# EAGLE library part ADXL362 (library SparkFun-Sensors)
Analog Devices ADXL362 3-Axis SPI Accelerometer The ADXL362 is an ultralow power, 3-axis MEMS accelerometer that consumes less than 2 μA at a 100 Hz output data rate and 270 nA when in motion triggered wake-up mode. Unlike accelerometers that use power duty cycling to achieve low power consumption, the ADXL362 does not alias input signals by undersampling; it samples the full bandwidth of the sensor at all data rates. Datasheet <http://cdn.sparkfun.com/datasheets/BreakoutBoards/ADXL362.pdf> SparkFun Products SparkFun Triple Axis Accelerometer Breakout - ADXL362 <https://www.sparkfun.com/products/11446> (SEN-11446)
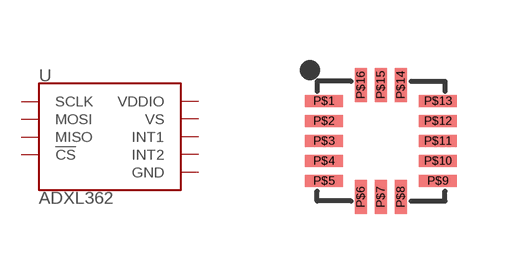
[diagram p19: symbol with the pads of LGA-16-3X2.5; footprint LGA-16-3X2.5]

Designator prefix U

## ADXL362 (PROD_ID: IC-11297)  [LGA-16-3X2.5]
P$1  VDDIO
P$4  SCLK
P$6  MOSI
P$7  MISO
P$8  !CS
P$9  INT2
P$11  INT1
P$12  GND
P$13  GND
P$14  VS
P$16  GND

## Footprint LGA-16-3X2.5 (pad centres in mm)
16-Pin LGA (3 x 3.25 mm) (1:1 footprint) Datasheet <http://cdn.sparkfun.com/datasheets/BreakoutBoards/ADXL362.pdf> Specifications: Pin Count: 16 Dimensions: 3.0 x 3.25 x 1.06 mm Pitch: 0.5 mm Devices Using: ADXL362
smd 0.952 x 0.3: P$1 -1.426,1; P$2 -1.426,0.5; P$3 -1.426,0; P$4 -1.426,-0.5; P$5 -1.426,-1; P$9 1.426,-1; P$10 1.426,-0.5; P$11 1.426,0; P$12 1.426,0.5; P$13 1.426,1
smd 0.3 x 0.851: P$6 -0.5,-1.402; P$7 0,-1.402; P$8 0.5,-1.402; P$14 0.5,1.402; P$15 0,1.402; P$16 -0.5,1.402